# EAGLE library part USB (library ZMPLC)
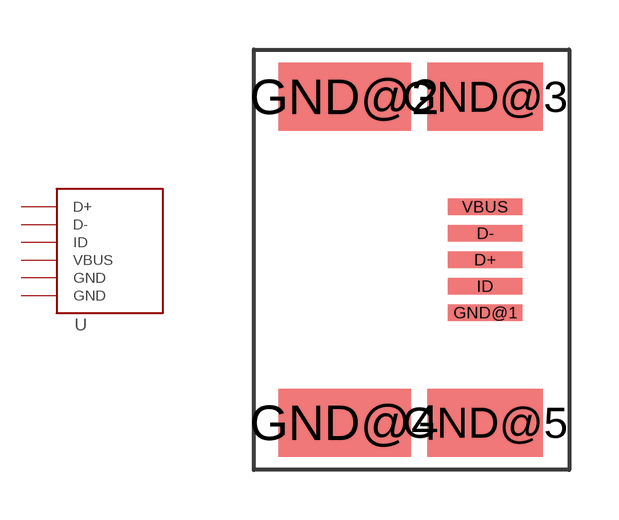
[diagram p8: symbol with the pads of USB; footprint USB]

Designator prefix -

## USB  [USB]
D+  D+
D-  D-
GND@1  GND
GND@2  GND
ID  ID
VBUS  VBUS

## Footprint USB (pad centres in mm)
smd 2.25 x 0.5: D+ 0,0; D- 0,0.8; GND@1 0,-1.6; ID 0,-0.8; VBUS 0,1.6
smd 4 x 2.05: GND@2 -4.25,4.925; GND@4 -4.25,-4.925
smd 3.5 x 2.05: GND@3 0,4.925; GND@5 0,-4.925